# Altium schematic symbol library ARTIK-020-AV2.Schlib: 1 symbol
Pins are listed as number, name and electrical type; pins without a type are passive.

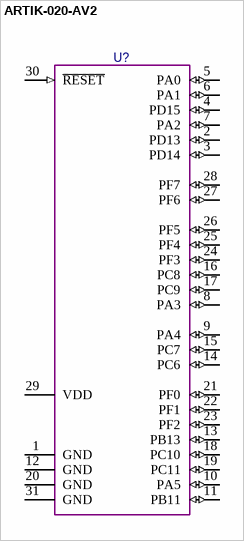
[diagram p0: symbol ARTIK-020-AV2]

## ARTIK-020-AV2
designator U?  (value not drawn)
ARTIK 020 Bluetooth Module
pins: 1 GND (power), 2 PD13 (io), 3 PD14 (io), 4 PD15 (io), 5 PA0 (io), 6 PA1 (io), 7 PA2 (io), 8 PA3 (io), 9 PA4 (io), 10 PA5 (io), 11 PB11 (io), 12 GND (power), 13 PB13 (io), 14 PC6 (io), 15 PC7 (io), 16 PC8 (io), 17 PC9 (io), 18 PC10 (io), 19 PC11 (io), 20 GND (power), 21 PF0 (io), 22 PF1 (io), 23 PF2 (io), 24 PF3 (io), 25 PF4 (io), 26 PF5 (io), 27 PF6 (io), 28 PF7 (io), 29 VDD (power), 30 ~{RESET} (in), 31 GND (power)